# EAGLE library part 74LVC8T245 (library Semiconductors > Integrated Circuits - ICs > Logic ICs > Logic Gates)
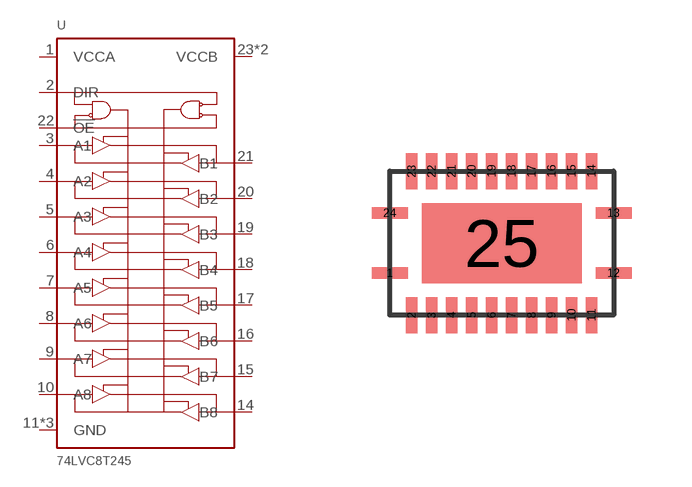
[diagram p4: symbol with the pads of SOT815-1; footprint SOT815-1]

Designator prefix U

## 74LVC8T245  [SOT815-1]
1  VCCA
2  DIR
3  A1
4  A2
5  A3
6  A4
7  A5
8  A6
9  A7
10  A8
11  GND
12  GND
13  GND
14  B8
15  B7
16  B6
17  B5
18  B4
19  B3
20  B2
21  B1
22  !OE
23  VCCB
24  VCCB

## Footprint SOT815-1 (pad centres in mm)
smd 0.9 x 0.29: 1 -2.8,-0.75; 12 2.8,-0.75; 13 2.8,0.75; 24 -2.8,0.75
smd 0.29 x 0.9: 2 -2.25,-1.8; 3 -1.75,-1.8; 4 -1.25,-1.8; 5 -0.75,-1.8; 6 -0.25,-1.8; 7 0.25,-1.8; 8 0.75,-1.8; 9 1.25,-1.8; 10 1.75,-1.8; 11 2.25,-1.8; 14 2.25,1.8; 15 1.75,1.8; 16 1.25,1.8; 17 0.75,1.8; 18 0.25,1.8; 19 -0.25,1.8; 20 -0.75,1.8; 21 -1.25,1.8; 22 -1.75,1.8; 23 -2.25,1.8
smd 4 x 2: 25 0,0